# Altium schematic symbol library LED.SchLib: 5 symbols
Pins are listed as number, name and electrical type; pins without a type are passive.

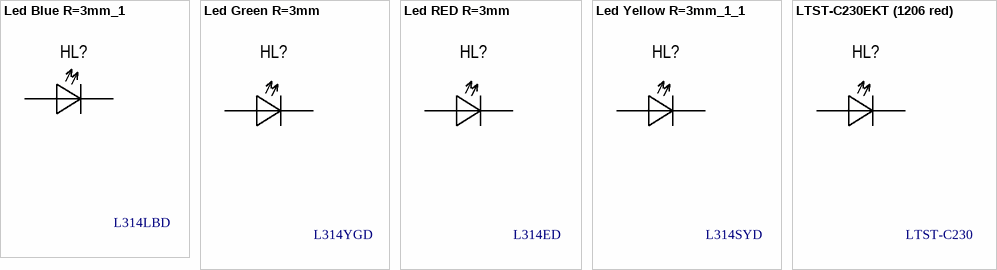
[diagram p0: symbols Led Blue R=3mm_1 to LTST-C230EKT (1206 red)]

## Led Blue R=3mm_1
designator HL?, comment L314LBD
Blue 470nm LED Indication - Discrete 3.2V Radial; Manufacture: American Opto Plus LED; Name: Светодиод голубой; Case: Radial 3mm; HelpURL: https://www.digikey.com/en/products/detail/american-opto-plus-led/L314LBD/13686875; Value: L314LBD; Model: L314LBD
footprint Radial Led 3mm (Blue)
pins: A, C

## Led Green R=3mm
designator HL?, comment L314YGD
Yellow-Green 570nm LED Indication - Discrete 2V Radial; Manufacture: American Opto Plus LED; Name: Светодиод зеленый; Case: Radial 3mm; HelpURL: https://www.digikey.com/en/products/detail/american-opto-plus-led/L314YGD/13686876; Value: L314YGD; Model: L314YGD
footprint Radial Led 3mm (Yellow-Green)
pins: A, C

## Led RED R=3mm
designator HL?, comment L314ED
Red 620nm LED Indication - Discrete 1.85V Radial; Manufacture: American Opto Plus LED; Name: Светодиод красный; Case: Radial 3mm; HelpURL: https://www.digikey.com/en/products/detail/american-opto-plus-led/L314ED/13677700; Value: L314ED; Model: L314ED
footprint Radial Led 3mm (Red)
pins: A, C

## Led Yellow R=3mm_1_1
designator HL?, comment L314SYD
Blue 470nm LED Indication - Discrete 3.2V Radial; Manufacture: American Opto Plus LED; Name: Светодиод желтый; Case: Radial 3mm; HelpURL: https://www.digikey.com/en/products/detail/american-opto-plus-led/L314SYD/13686878; Value: L314SYD; Model: L314SYD
footprint Radial Led 3mm (Yellow)
pins: A, C

## LTST-C230EKT (1206 red)
designator HL?, comment LTST-C230
Red 621nm LED Indication - Discrete 2V 1206 (3216 Metric); Manufacture: Lite-On Inc.; Name: Светодиод красный; Model: LTST-C230EKT; Case: 1206; HelpURL: https://www.digikey.com/en/products/detail/lite-on-inc/LTST-C230EKT/269234; Value: LTST-C230
footprint SMD 1206
pins: A, C